# EAGLE library part MIKROE_BUS_CONN_R (library U96-SVM)
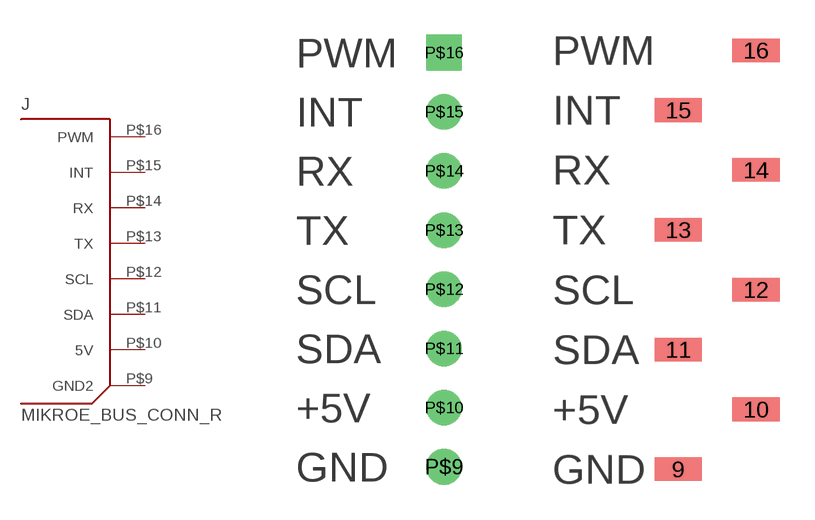
[diagram p10: symbol with the pads of MIKROBUS_HOST_CONN_R; footprints MIKROBUS_HOST_CONN_R, MIKROBUS_HOST_CONN_R2]

Designator prefix J

## MIKROE_BUS_CONN_R  [MIKROBUS_HOST_CONN_R]
P$9  GND2
P$10  5V
P$11  SDA
P$12  SCL
P$13  TX
P$14  RX
P$15  INT
P$16  PWM

## MIKROE_BUS_CONN_RNPTC081KFXC  [MIKROBUS_HOST_CONN_R2]
9  GND2
10  5V
11  SDA
12  SCL
13  TX
14  RX
15  INT
16  PWM

## Footprint MIKROBUS_HOST_CONN_R (pad centres in mm)
drill 0.889 pad 1.524: P$9 0,-17.78; P$10 0,-15.24; P$11 0,-12.7; P$12 0,-10.16; P$13 0,-7.62; P$14 0,-5.08; P$15 0,-2.54
drill 0.889 pad 1.524 square: P$16 0,0

## Footprint MIKROBUS_HOST_CONN_R2 (pad centres in mm)
smd 2 x 1: 9 -1.65,-17.78; 10 1.65,-15.24; 11 -1.65,-12.7; 12 1.65,-10.16; 13 -1.65,-7.62; 14 1.65,-5.08; 15 -1.65,-2.54; 16 1.65,0